# Altium schematic symbol library LED_Schlib1.SchLib: 4 symbols
Pins are listed as number, name and electrical type; pins without a type are passive.

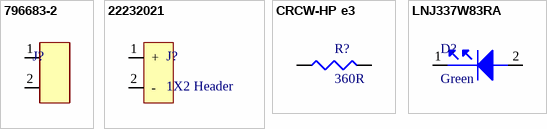
[diagram p0: symbols 796683-2 to LNJ337W83RA]

## 796683-2
designator J?, comment 1X2 header, screw  (value not drawn)
header, Screw, PCB mount; Manufacturer: TE Connectivity; Part No: 796683-2
footprint Header, Screw
pins: 1, 2

## 22232021
designator J?, comment 1X2 Header
Manufacturer: Molex; Part No: 22232021; Name: Header 1X2; Series No: 6373
footprint Header1X2
pins: 1 +, 2 -

## CRCW-HP e3
designator R?, comment 360R
Manufacturer: Vishay; Part No: CRCW-HP e3; name: resistor
footprint R0805
pins: 1, 2

## LNJ337W83RA
designator D?, comment Green
Manufacturer: Panasonic; Part No: LNJ337W83RA; Name: Green 0603 LED
footprint LED0603G
pins: 1, 2